# Altium integrated library Bipolar (BJT).IntLib: 1 symbol
Pins are listed as number, name and electrical type; pins without a type are passive.

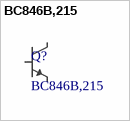
[diagram p0: symbol BC846B,215]

## BC846B,215
designator Q?
Transistor General Purpose BJT NPN 65 Volt 0.1A Automotive 3-Pin TO-236AB; Manufacturer: Philips; Power Dissipation: 500mW; Designed: Ferdi; Supplier 1: Mouser; Manufacturer Part Number: BC846B,215; RoHS: No; Category: Uncategorized; Stock 1: 522866; Pricing 1: 1=0,120000, 10=0,081000, 50=0,081000, 100=0,041000, 500=0,044000, 1000=0,023000, 3000=0,020000, 9000=0,018000, 10000=0,016000, 24000=0,016000 (USD); Number of Pins: 3; Polarity: NPN; Packaging: Cut Tape; Reach SVHC Compliant: Yes; Lead Free: Lead Free; ComponentLink1URL: http://www.farnell.com/datasheets/1699731.pdf?src-supplier=Farnell; ComponentLink1Description: http://www.farnell.com/datasheets/1699731.pdf?src-supplier=Farnell; Supplier 2: Digi-Key; Stock 2: 788921; Pricing 2: 1=0,140000, 10=0,097000, 100=0,052600, 500=0,041280, 1000=0,028660 (USD); Supplier Part Number 2: 1727-2920-1-ND; Supplier Part Number 1: 771-BC846B-T/R
footprint SOT-23 (SOT-23 / 3)
pins: 1 B, 2 E, 3 C